# Altium footprint library PCB - LEADED - TSOP-10_DGQ0010D_L.PCBLIB: 1 footprints
Each footprint in its own frame and in the unit in brackets; x right, y up, seen from the top. Pads: shape width x height; smd on the part's side, far side on the other; paste and mask are expansions set on the pad; w line width, h text height; cw(c..) or ccw(c..) is an arc to the next point about the centre after c.
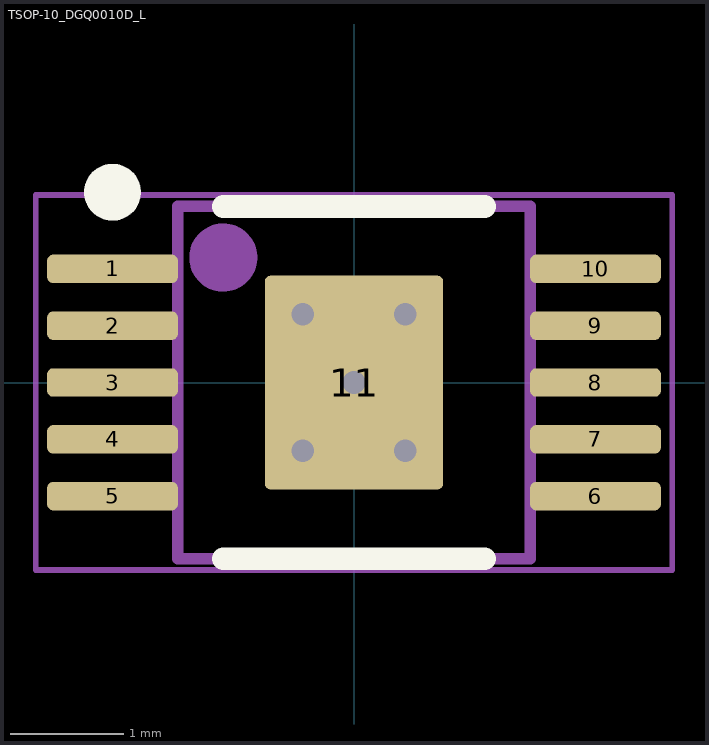
[diagram p0: the footprint, top view; thin cyan lines are the x and y axes]

## TSOP-10_DGQ0010D_L [mm] "TSOP, 10-Leads, Body 3.1x3.1mm, Pitch 0.5mm, Thermal Pad 1.88x1.57mm, IPC High Density"
height 1.1
pads (11):
  rrect40% 1.15x0.25 smd: 1(-2.125,1) 2(-2.125,0.5) 3(-2.125,0) 4(-2.125,-0.5) 5(-2.125,-1) 6(2.125,-1) 7(2.125,-0.5) 8(2.125,0) 9(2.125,0.5) 10(2.125,1)
  rrect6% 1.57x1.88 smd: 11(0,0)
via 0,0 diameter 0.5 hole 0.2
via 0.45,0.6 diameter 0.5 hole 0.2
via 0.45,-0.6 diameter 0.5 hole 0.2
via -0.45,-0.6 diameter 0.5 hole 0.2
via -0.45,0.6 diameter 0.5 hole 0.2
Top Overlay:
  circle w0.25: c-2.125,1.675 r0.125
  lines w0.2: -1.15,-1.55 1.15,-1.55 ; -1.15,1.55 1.15,1.55
M5 Assembly Top:
  circle w0.3: c-1.15,1.1 r0.15
  lines w0.1: -1.55,-1.55 -1.55,1.55 1.55,1.55 1.55,-1.55 -1.55,-1.55
  text ".Designator" at -1.097,-0.554 h0.76
Mechanical 15:
  lines w0.05: -2.8,-1.65 -2.8,1.65 2.8,1.65 2.8,-1.65 -2.8,-1.65
  lines w0.1: -0.5,0 0.5,0 ; 0,-0.5 0,0.5
3D body "DGQ0010.stp": height 0.94, standoff -0.02, extent -2.451,-1.499 2.451,1.499